# EAGLE library part LM2575S-5.0_NOPB (library SamacSys_Parts)
SIMPLE SWITCHER 1A Step-Down Voltage Regulator Source: Datasheet <https://datasheet.datasheetarchive.com/originals/distributors/Datasheets-SFU2/DSASFU100036590.pdf>
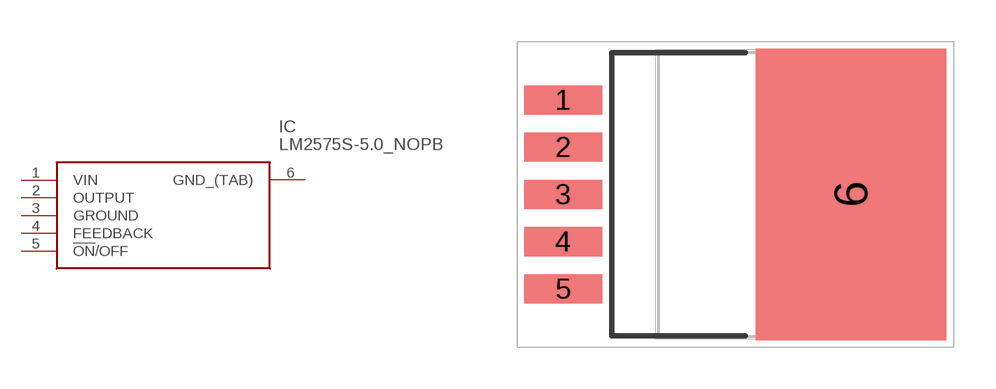
[diagram p32: symbol with the pads of TO170P1435X465-6N; footprint TO170P1435X465-6N]

Designator prefix IC

## LM2575S-5.0_NOPB (DESCRIPTION: SIMPLE SWITCHER 1A Step-Down Voltage Regulator; HEIGHT: 4.65mm; MANUFACTURER_NAME: Texas Instruments; MANUFACTURER_PART_NUMBER: LM2575S-5.0/NOPB; MOUSER_PART_NUMBER: 926-LM2575S-5.0/NOPB; MOUSER_PRICE-STOCK: https://www.mouser.co.uk/ProductDetail/Texas-Instruments/LM2575S-5.0-NOPB?qs=X1J7HmVL2ZElk5mFj5GJAw%3D%3D)  [TO170P1435X465-6N]
1  VIN  in
2  OUTPUT  out
3  GROUND
4  FEEDBACK
5  !ON!/OFF
6  GND_(TAB)  pwr

## Footprint TO170P1435X465-6N (pad centres in mm)
KTT0005B
smd 2.8 x 1.05: 1 -6.2,3.4; 2 -6.2,1.7; 3 -6.2,0; 4 -6.2,-1.7; 5 -6.2,-3.4
smd 6.85 x 10.5: 6 4.15,0